# EAGLE library part SW-DPDT (library ryans-common-components)
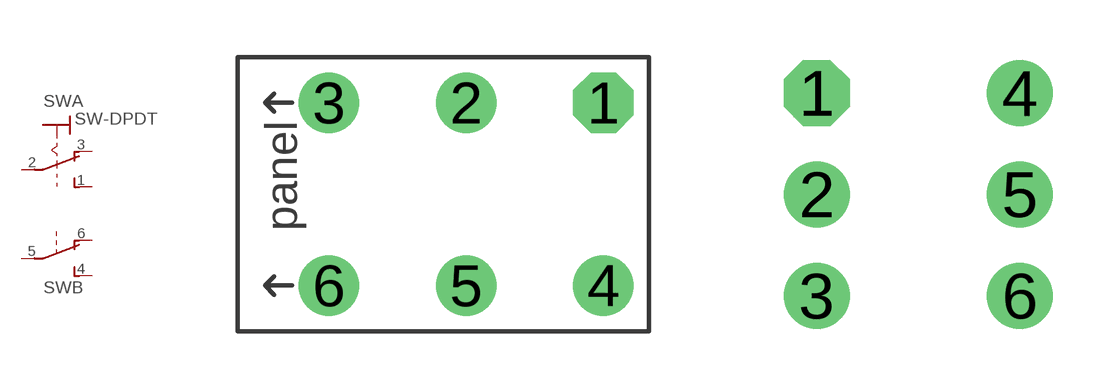
[diagram p8: symbol with the pads of DPDT-FOOTPRINT; footprints DPDT-FOOTPRINT, SW-DPDT-PCB-REVERSE-MNT]

Designator prefix SW; gates A=SW-SPDT-FIRST B=SW-SPDT-LAST

## SW-DPDT-WIRED-PANEL-MNT  [DPDT-FOOTPRINT]
1  A:S  pas
2  A:P  pas
3  A:O  pas
4  B:S  pas
5  B:P  pas
6  B:O  pas

## SW-DPDT-PCB-REVERSE-MNT  [SW-DPDT-PCB-REVERSE-MNT]
Pads as for DPDT-FOOTPRINT

## SW-DPDT-PCB-MNT  [SW-DPDT-PCB-MNT]
Pads as for DPDT-FOOTPRINT

## Footprint DPDT-FOOTPRINT (pad centres in mm)
drill 0.914 pad 1.676 octagon: 1 3.81,2.54
drill 0.914 pad 1.676: 2 0,2.54; 3 -3.81,2.54; 4 3.81,-2.54; 5 0,-2.54; 6 -3.81,-2.54

## Footprint SW-DPDT-PCB-REVERSE-MNT (pad centres in mm)
Mountain Switch Mouser P/N: 108-0043-EVX (On-On) 108-0046-EVX (On-Off-On)
drill 1.1 octagon: 1 -2.54,2.54
drill 1.1: 2 -2.54,0; 3 -2.54,-2.54; 4 2.54,2.54; 5 2.54,0; 6 2.54,-2.54

## Footprint SW-DPDT-PCB-MNT (pad centres in mm)
drill 1.1 octagon: 1 -2.54,2.54
drill 1.1: 2 -2.54,0; 3 -2.54,-2.54; 4 2.54,2.54; 5 2.54,0; 6 2.54,-2.54